# Altium footprint library BGA30C50P6X5_293X274X69.PcbLib: 1 footprints
Each footprint in its own frame and in the unit in brackets; x right, y up, seen from the top. Pads: shape width x height; smd on the part's side, far side on the other; paste and mask are expansions set on the pad; w line width, h text height; cw(c..) or ccw(c..) is an arc to the next point about the centre after c.
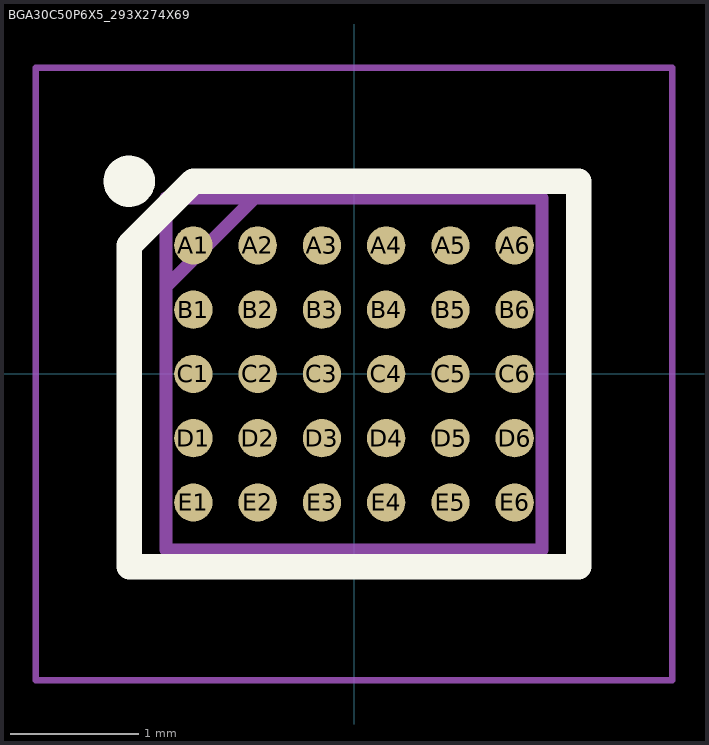
[diagram p0: the footprint, top view; thin cyan lines are the x and y axes]

## BGA30C50P6X5_293X274X69 [mm]
pads (30):
  round 0.298 smd: A1(-1.25,1) A2(-0.75,1) A3(-0.25,1) A4(0.25,1) A5(0.75,1) A6(1.25,1) B1(-1.25,0.5) B2(-0.75,0.5) B3(-0.25,0.5) B4(0.25,0.5) B5(0.75,0.5) B6(1.25,0.5) C1(-1.25,0) C2(-0.75,0) C3(-0.25,0) C4(0.25,0) C5(0.75,0) C6(1.25,0) D1(-1.25,-0.5) D2(-0.75,-0.5) D3(-0.25,-0.5) D4(0.25,-0.5) D5(0.75,-0.5) D6(1.25,-0.5) E1(-1.25,-1) E2(-0.75,-1) E3(-0.25,-1) E4(0.25,-1) E5(0.75,-1) E6(1.25,-1)
Top Overlay:
  circle w0.2: c-1.749,1.499 r0.1
  lines w0.2: -1.749,-1.499 1.749,-1.499 1.749,1.499 -1.25,1.499 -1.749,1 -1.749,-1.499
Mechanical 15:
  lines w0.1: -1.463,0.679 -0.772,1.37 ; -1.463,-1.37 1.463,-1.37 1.463,1.37 -1.463,1.37 -1.463,-1.37
Mechanical 20:
  lines w0.05: -2.476,-2.383 2.475,-2.383 2.475,2.382 -2.476,2.382 -2.476,-2.383